# Altium schematic symbol library header 3.SCHLIB: 1 symbol
Pins are listed as number, name and electrical type; pins without a type are passive.

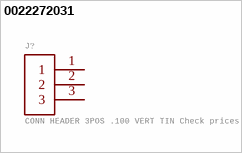
[diagram p0: symbol 0022272031]

## 0022272031
designator J?, comment CONN HEADER 3POS .100 VERT TIN Check prices
GateName_1: G$1; SymbolName_1: 0022272031; MF: Molex; Description: Connector Header Through Hole 3 position 0.100 (2.54mm); LibraryName: header 3; DeviceSetName: 0022272031; Package: MOLEX_0022272031; Price: None; MP: 0022272031; Availability: Good; Package: None
footprint MOLEX_0022272031
pins: 1, 2, 3